# Altium footprint library Footprints.PcbLib: 1 footprints
Each footprint in its own frame and in the unit in brackets; x right, y up, seen from the top. Pads: shape width x height; smd on the part's side, far side on the other; paste and mask are expansions set on the pad; w line width, h text height; cw(c..) or ccw(c..) is an arc to the next point about the centre after c.
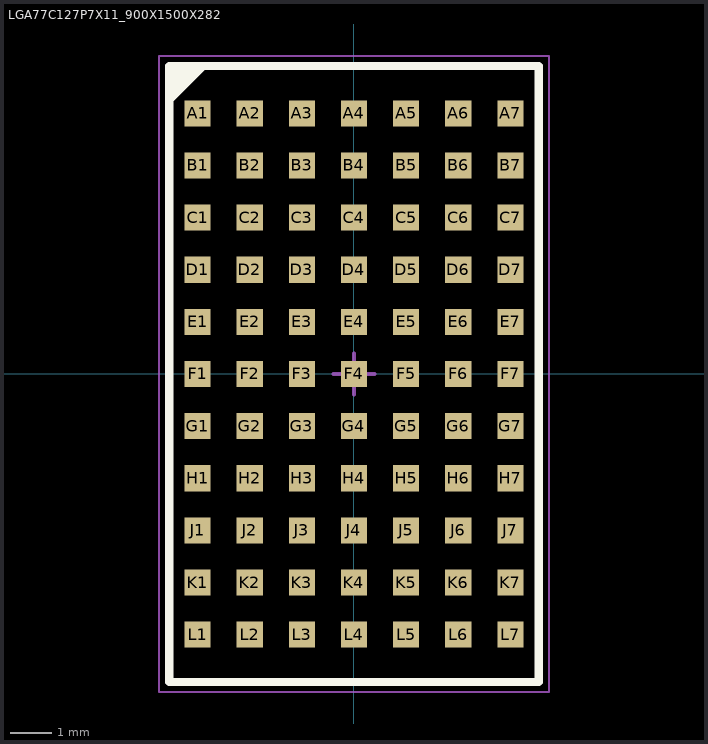
[diagram p0: the footprint, top view; thin cyan lines are the x and y axes]

## LGA77C127P7X11_900X1500X282 [mil] "LGA, 77-Leads, Body 9.00x15.00mmx2.82mm, Pitch 1.27mm"
height 111.02
pads (77):
  rect 25x25 smd: A1(-150,250) A2(-100,250) A3(-50,250) A4(0,250) A5(50,250) A6(100,250) A7(150,250) B1(-150,200) B2(-100,200) B3(-50,200) B4(0,200) B5(50,200) B6(100,200) B7(150,200) C1(-150,150) C2(-100,150) C3(-50,150) C4(0,150) C5(50,150) C6(100,150) C7(150,150) D1(-150,100) D2(-100,100) D3(-50,100) D4(0,100) D5(50,100) D6(100,100) D7(150,100) E1(-150,50) E2(-100,50) E3(-50,50) E4(0,50) E5(50,50) E6(100,50) E7(150,50) F1(-150,0) F2(-100,0) F3(-50,0) F4(0,0) F5(50,0) F6(100,0) F7(150,0) G1(-150,-50) G2(-100,-50) G3(-50,-50) G4(0,-50) G5(50,-50) G6(100,-50) G7(150,-50) H1(-150,-100) H2(-100,-100) H3(-50,-100) H4(0,-100) H5(50,-100) H6(100,-100) H7(150,-100) J1(-150,-150) J2(-100,-150) J3(-50,-150) J4(0,-150) J5(50,-150) J6(100,-150) J7(150,-150) K1(-150,-200) K2(-100,-200) K3(-50,-200) K4(0,-200) K5(50,-200) K6(100,-200) K7(150,-200) L1(-150,-250) L2(-100,-250) L3(-50,-250) L4(0,-250) L5(50,-250) L6(100,-250) L7(150,-250)
Top Overlay:
  region: -144.67,295.28 -177.17,262.78 -177.17,295.28
  lines w7.87: -177.17,262.78 -144.67,295.28 ; -177.17,-295.28 -177.17,295.28 177.17,295.28 177.17,-295.28 -177.17,-295.28
Mechanical 13:
  lines w3.94: -177.17,-295.28 -177.17,295.28 177.17,295.28 177.17,-295.28 -177.17,-295.28
Mechanical 15:
  lines w1.97: -187.01,-305.12 -187.01,305.12 187.01,305.12 187.01,-305.12 -187.01,-305.12
  lines w3.94: -19.68,0 19.68,0 ; 0,-19.68 0,19.68
3D body "LGA77C127P7X11_900X1500X282.step": height 111.02, standoff 0, extent -177.17,-295.28 177.17,295.28